# Altium footprint library VFBGA-20.PcbLib: 1 footprints
Each footprint in its own frame and in the unit in brackets; x right, y up, seen from the top. Pads: shape width x height; smd on the part's side, far side on the other; paste and mask are expansions set on the pad; w line width, h text height; cw(c..) or ccw(c..) is an arc to the next point about the centre after c.
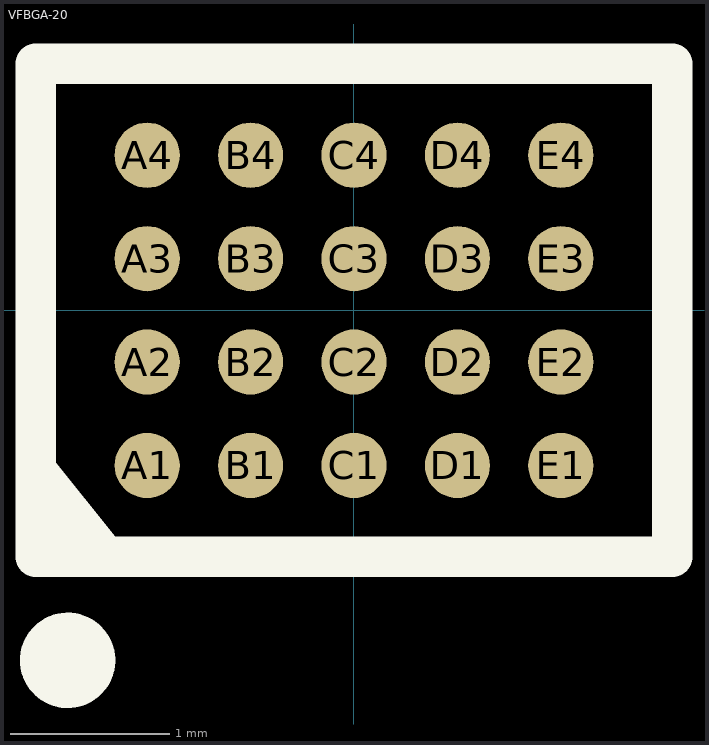
[diagram p0: the footprint, top view; thin cyan lines are the x and y axes]

## VFBGA-20 [mm]
pads (20):
  round 0.41 smd mask+0.051: A1(-1.3,-0.975) A2(-1.3,-0.325) A3(-1.3,0.325) A4(-1.3,0.975) B1(-0.65,-0.975) B2(-0.65,-0.325) B3(-0.65,0.325) B4(-0.65,0.975) C1(0,-0.975) C2(0,-0.325) C3(0,0.325) C4(0,0.975) D1(0.65,-0.975) D2(0.65,-0.325) D3(0.65,0.325) D4(0.65,0.975) E1(1.3,-0.975) E2(1.3,-0.325) E3(1.3,0.325) E4(1.3,0.975)
Top Overlay:
  circle w0.3: c-1.8,-2.2 r0.15
  region: -2,-0.8 -1.4,-1.55 -2,-1.55
  lines w0.254: -2,-1.55 -2,1.55 2,1.55 2,-1.55 -2,-1.55